# EAGLE library part TPS2114APWR (library receiver_2v0)
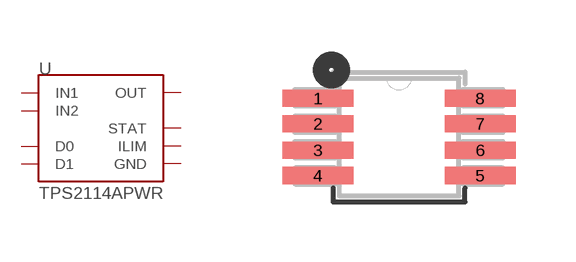
[diagram p13: symbol with the pads of RM-08; footprint RM-08]

Designator prefix U

## TPS2114APWR  [RM-08]
1  STAT
2  D0
3  D1
4  ILIM
5  GND
6  IN2
7  OUT
8  IN1

## Footprint RM-08 (pad centres in mm)
smd 1.778 x 0.432: 1 -2.032,0.965; 2 -2.032,0.33; 3 -2.032,-0.33; 4 -2.032,-0.965; 5 2.032,-0.965; 6 2.032,-0.33; 7 2.032,0.33; 8 2.032,0.965